# Altium footprint library PcbLib1.PcbLib: 8 footprints
Each footprint in its own frame and in the unit in brackets; x right, y up, seen from the top. Pads: shape width x height; smd on the part's side, far side on the other; paste and mask are expansions set on the pad; w line width, h text height; cw(c..) or ccw(c..) is an arc to the next point about the centre after c.
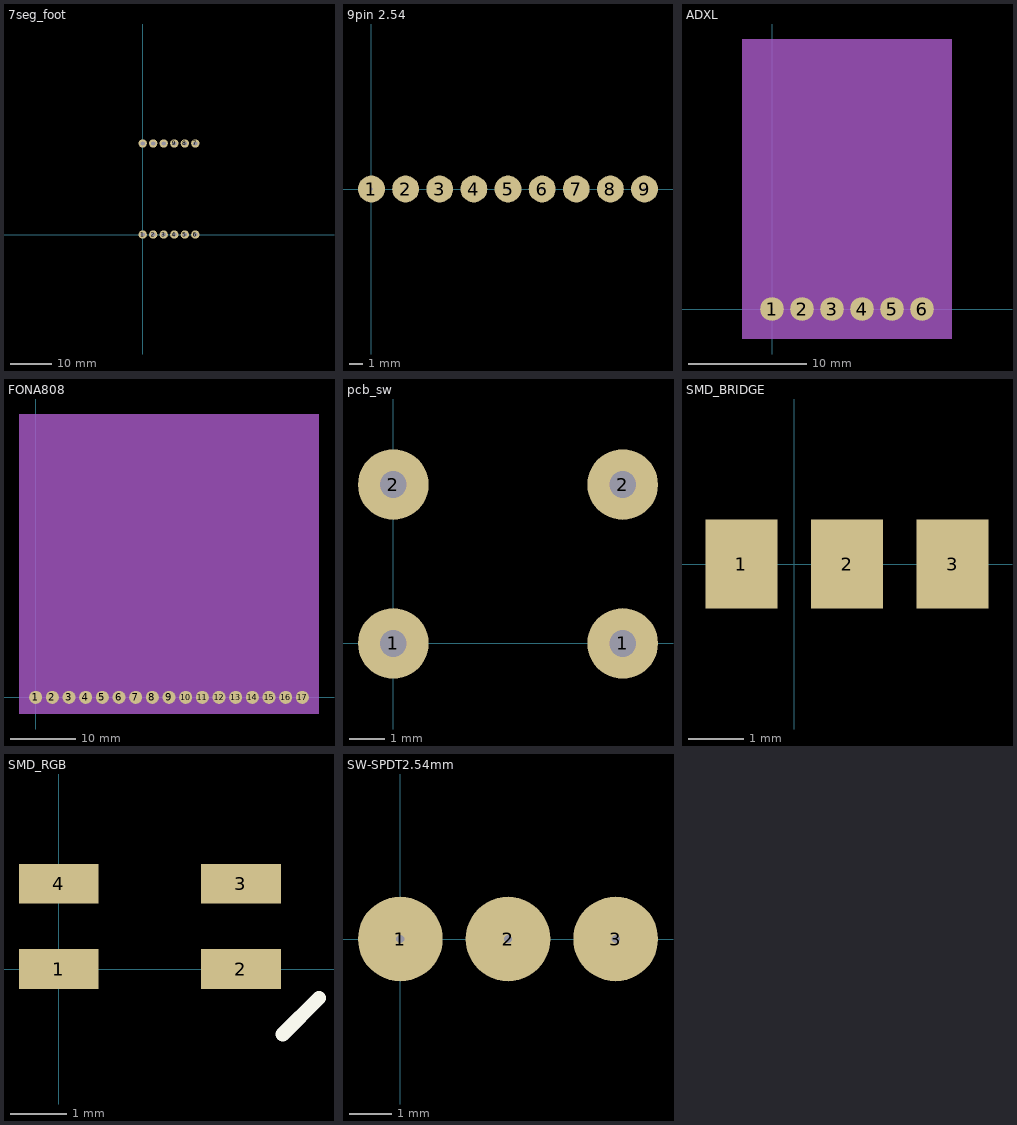
[diagram p0: the footprints below, top view; thin cyan lines are the x and y axes]

## 7seg_foot [mm]
pads (12):
  round 2 hole 1: 1(0,0) 2(2.54,0) 3(5.08,0) 4(7.62,0) 5(10.16,0) 6(12.7,0) 7(12.7,22) 8(10.16,22) 9(7.62,22) 10(5.08,22) 11(2.54,22) 12(0,22)
Bottom Overlay:
  rectangle: -29.845,0 42.545,22.098
3D body: height 8, standoff 3, extent -29.845,-1.102 42.545,23.102

## 9pin 2.54 [mm]
height 8
pads (9):
  round 2 hole 0.2: 1(0,0) 2(2.54,0) 3(5.08,0) 4(7.62,0) 5(10.16,0) 6(12.7,0) 7(15.24,0) 8(17.78,0) 9(20.32,0)
3D body: height 8, standoff 0, extent -1.102,-1.102 21.422,1.102

## ADXL [mm]
height 4
pads (6):
  round 2 hole 0.2: 1(0,0) 2(2.54,0) 3(5.08,0) 4(7.62,0) 5(10.16,0) 6(12.7,0)
Mechanical 1:
  rectangle: -2.54,-2.54 15.24,22.86
3D body: height 4, standoff 0, extent -1.102,-1.102 13.802,1.102
3D body: height 6, standoff 3, extent -2.54,-2.54 15.24,22.86

## FONA808 [mm]
pads (17):
  round 2 hole 0.2: 1(0,0) 2(2.54,0) 3(5.08,0) 4(7.62,0) 5(10.16,0) 6(12.7,0) 7(15.24,0) 8(17.78,0) 9(20.32,0) 10(22.86,0) 11(25.4,0) 12(27.94,0) 13(30.48,0) 14(33.02,0) 15(35.56,0) 16(38.1,0) 17(40.64,0)
Mechanical 1:
  rectangle: -2.54,-2.54 43.18,43.18
3D body: height 11, standoff 8, extent -2.54,-2.54 43.18,43.18
3D body: height 8, standoff 0, extent -1.102,-1.102 41.742,1.102

## pcb_sw [mm]
height 5
pads (4):
  round 2 hole 0.762: 1(0,0) 1(6.5,0) 2(0,4.5) 2(6.5,4.5)

## SMD_BRIDGE [mm] "SMD 2012-0805"
height 1
pads (3):
  rect 1.3x1.6 smd: 1(-0.95,0) 2(0.95,0) 3(2.85,0)
3D body: height 1, standoff 0, extent -1.702,-0.902 3.602,0.902

## SMD_RGB [mm]
pads (4):
  rect 1.4x0.7 smd: 1(0,0) 2(3.2,0) 3(3.2,1.5) 4(0,1.5)
Top Overlay:
  lines w0.254: 3.937,-1.143 4.572,-0.508

## SW-SPDT2.54mm [mm]
height 5
pads (3):
  round 2 hole 0.2: 1(0,0) 2(2.54,0) 3(5.08,0)
3D body: height 5, standoff 0, extent -1.102,-1.102 6.182,1.102